# Altium footprint library CustomizedLib.PcbLib: 19 footprints (part 2 of 2)
Each footprint in its own frame and in the unit in brackets; x right, y up, seen from the top. Pads: shape width x height; smd on the part's side, far side on the other; paste and mask are expansions set on the pad; w line width, h text height; cw(c..) or ccw(c..) is an arc to the next point about the centre after c.
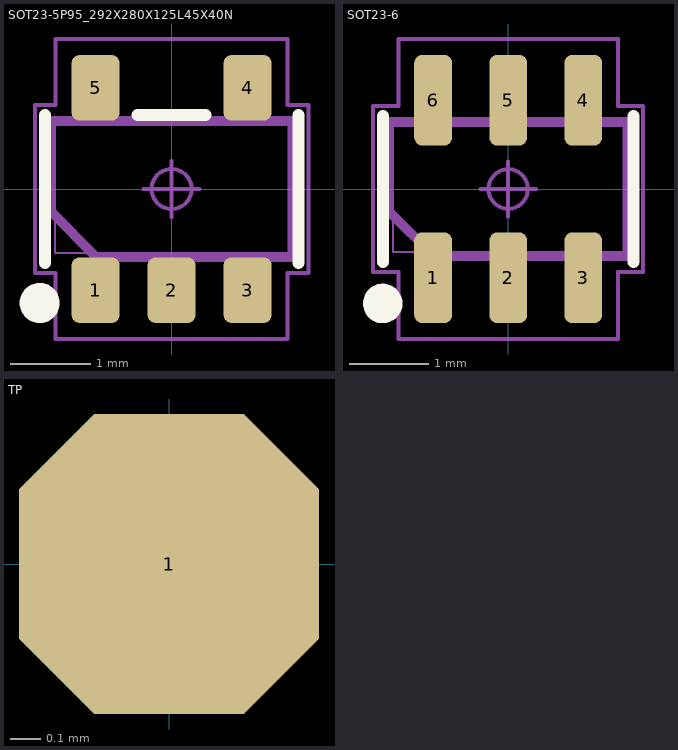
[diagram p1: the footprints below, top view; thin cyan lines are the x and y axes]

## SOT23-5P95_292X280X125L45X40N [mm] "Small Outline Transistor, SOT-23 Type, 0.95 mm pitch; 5 pin, 2.92 mm L X 1.60 mm W X 1.25 mm H body"
height 1.25
pads (5):
  rrect33% 0.6x0.82 smd: 1(-0.95,-1.265) 2(0,-1.265) 3(0.95,-1.265) 4(0.95,1.265) 5(-0.95,1.265)
Top Overlay:
  circle w0.25: c-1.65,-1.425 r0.125
  lines w0.15: -1.585,-0.925 -1.585,0.925 ; -0.425,0.925 0.425,0.925 ; 1.585,-0.925 1.585,0.925
Mechanical 9:
  lines w0.12: -1.51,-0.283 -0.943,-0.85 1.51,-0.85 1.51,0.85 -1.51,0.85 -1.51,-0.283
Mechanical 15:
  lines w0.05: -1.71,-1.05 -1.71,1.05 -1.45,1.05 -1.45,1.875 1.45,1.875 1.45,1.05 1.71,1.05 1.71,-1.05 1.45,-1.05 1.45,-1.875 -1.45,-1.875 -1.45,-1.05 -1.71,-1.05
Mechanical 17:
  circle w0.05: c0,0 r0.25
  lines w0.05: -0.35,0 0.35,0 ; 0,-0.35 0,0.35
Mechanical 21:
  lines w0.025: -1.46,-0.8 -1.46,0.8 1.46,0.8 1.46,-0.8 -1.46,-0.8 ; -1.15,-1.4 -0.75,-1.4 -0.75,-0.95 -1.15,-0.95 -1.15,-1.4 ; -1.15,0.95 -0.75,0.95 -0.75,1.4 -1.15,1.4 -1.15,0.95 ; -0.2,-1.4 0.2,-1.4 0.2,-0.95 -0.2,-0.95 -0.2,-1.4 ; 0.75,-1.4 1.15,-1.4 1.15,-0.95 0.75,-0.95 0.75,-1.4 ; 0.75,0.95 1.15,0.95 1.15,1.4 0.75,1.4 0.75,0.95
3D body "SOT23-5P95_292X280X125L45X40.STEP": height 1.25, standoff 0, extent -1.46,-1.4 1.46,1.4

## SOT23-6 [mm] "Small Outline Transistor, SOT-23 Type, 0.95 mm pitch; 6 pin, 2.92 mm L X 1.60 mm W X 1.25 mm H body"
height 1.25
pads (6):
  rrect42% 0.48x1.15 smd: 1(-0.95,-1.125) 2(0,-1.125) 3(0.95,-1.125) 4(0.95,1.125) 5(0,1.125) 6(-0.95,1.125)
Top Overlay:
  circle w0.25: c-1.59,-1.45 r0.125
  lines w0.15: -1.585,-0.925 -1.585,0.925 ; 1.585,-0.925 1.585,0.925
Mechanical 9:
  lines w0.12: -1.51,-0.283 -1.51,0.85 1.51,0.85 1.51,-0.85 -0.943,-0.85 -1.51,-0.283
Mechanical 15:
  lines w0.05: -1.71,-1.05 -1.39,-1.05 -1.39,-1.9 1.39,-1.9 1.39,-1.05 1.71,-1.05 1.71,1.05 1.39,1.05 1.39,1.9 -1.39,1.9 -1.39,1.05 -1.71,1.05 -1.71,-1.05
Mechanical 17:
  circle w0.05: c0,0 r0.25
  lines w0.05: -0.35,0 0.35,0 ; 0,-0.35 0,0.35
Mechanical 21:
  lines w0.025: -1.46,-0.8 1.46,-0.8 1.46,0.8 -1.46,0.8 -1.46,-0.8 ; -1.125,-1.4 -1.125,-0.95 -0.775,-0.95 -0.775,-1.4 -1.125,-1.4 ; -1.125,0.95 -1.125,1.4 -0.775,1.4 -0.775,0.95 -1.125,0.95 ; -0.175,-1.4 -0.175,-0.95 0.175,-0.95 0.175,-1.4 -0.175,-1.4 ; -0.175,0.95 -0.175,1.4 0.175,1.4 0.175,0.95 -0.175,0.95 ; 0.775,-1.4 0.775,-0.95 1.125,-0.95 1.125,-1.4 0.775,-1.4 ; 0.775,0.95 0.775,1.4 1.125,1.4 1.125,0.95 0.775,0.95
3D body "SOT23-6P95_292X280X125L45X35.STEP": height 1.25, standoff 0, extent -1.46,-1.4 1.46,1.4

## TP [mm]
pads (1):
  oct 1x1 smd paste-2539.97: 1(0,0)